# Altium schematic symbol library AnalogUnits.SchLib: 19 symbols
Pins are listed as number, name and electrical type; pins without a type are passive.

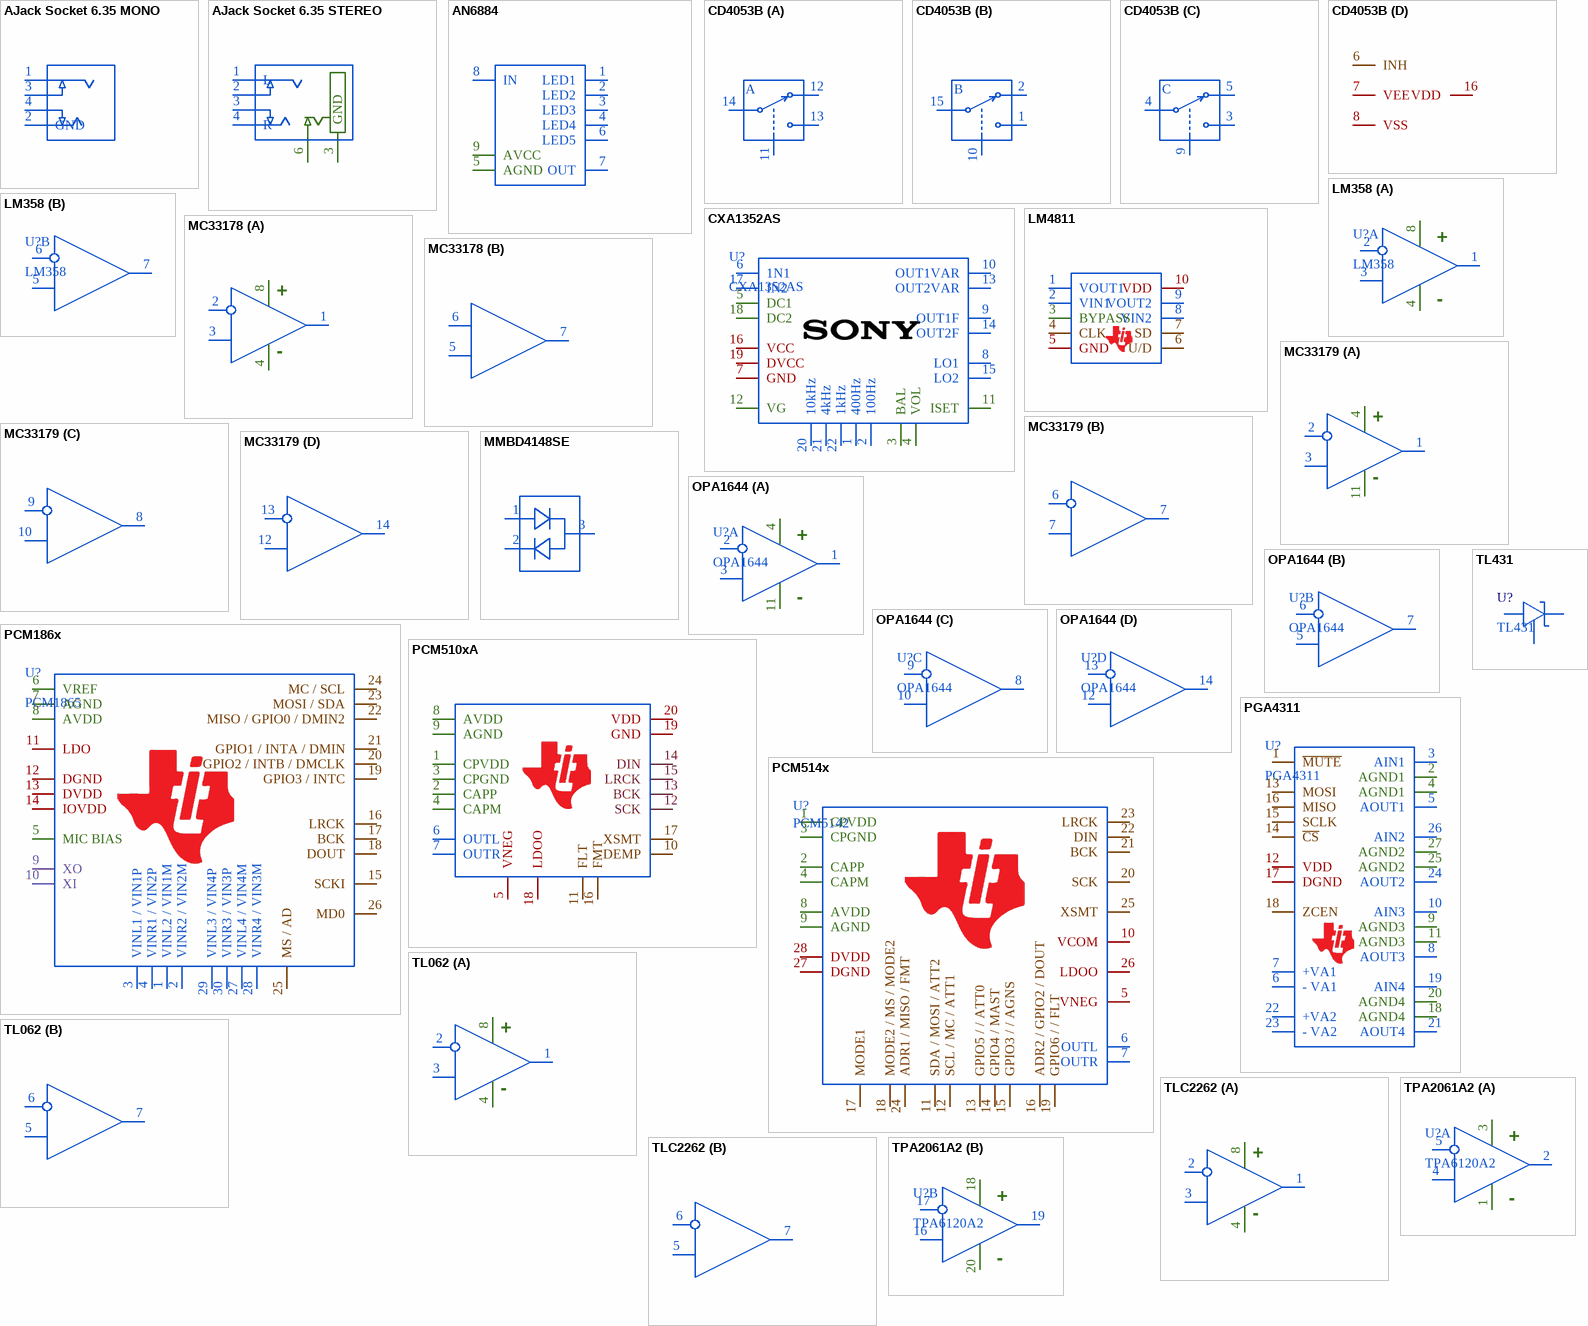
[diagram p0: symbols AJack Socket 6.35 MONO to TPA2061A2]

## AJack Socket 6.35 MONO
designator J?
Case: DNP; Part Number: N/A
footprint AJACKSOCKET-6.35-MONO (6.35mm Mono Jack Socket Connector)
pins: 1, 2 GND, 3, 4

## AJack Socket 6.35 STEREO
designator J?
Case: DNP; Part Number: N/A
footprint AJACKSOCKET-6.35-STEREO (6.35mm Mono Jack Socket Connector)
pins: 1 L, 2, 3 GND, 3, 4 R, 6

## AN6884
designator U?
Driving 5-LED and is capable of logarithmic (dB) bar graph display for input signal; Name: AN6884; Case: DNP; Part Number: N/A
footprint SIP9
pins: 1 LED1, 2 LED2, 3 LED3, 4 LED4, 5 AGND, 6 LED5, 7 OUT, 8 IN, 9 AVCC

## CD4053B
designator U?
CMOS Single 8-Channel Analog Multiplexer or Demultiplexer; Name: CD4053B; Case: DNP; Part Number: N/A
footprint SOIC16
footprint DIP16
footprint TSSOP16
part A pins: 11, 12, 13, 14
part B pins: 1, 2, 10, 15
part C pins: 3, 4, 5, 9
part D pins: 6 INH, 7 VEE, 8 VSS, 16 VDD
part A text: A
part B text: B
part C text: C

## CXA1352AS
designator U?
2-channel 5 Elements Graphic Equalizer IC; Name: CXA1352AS; Case: DNP; Part Number: N/A
footprint SDIP22
pins: 1 400Hz, 2 100Hz, 3 BAL, 4 VOL, 5 DC1, 6 1N1, 7 GND, 8 LO1, 9 OUT1F, 10 OUT1VAR, 11 ISET, 12 VG, 13 OUT2VAR, 14 OUT2F, 15 LO2, 16 VCC, 17 IN2, 18 DC2, 19 DVCC, 20 10kHz, 21 4kHz, 22 1kHz

## LM358
designator U?
Classical OA; Name: LM358; Case: DNP; Part Number: N/A
footprint SOIC8
footprint DIP8
part A pins: 1, 2 -, 3, 4 -, 8 +
part B pins: 5, 6 -, 7

## LM4811
designator U?
Dual 105mW Headphone Amplifier with Digital Volume Control and Shutdown mode; Name: LM4811; Case: DNP; Part Number: N/A
footprint HVSSOP10
pins: 1 VOUT1, 2 VIN1, 3 BYPASS, 4 CLK, 5 GND, 6 U/D, 7 SD, 8 VIN2, 9 VOUT2, 10 VDD

## MC33178
designator U?
Operational Amplifiers - Low Power, Low Noise; Name: MC33178; Case: DNP; Part Number: N/A
footprint DIP8
footprint SOIC8
part A pins: 1, 2 -, 3, 4 -, 8 +
part B pins: 5, 6 -, 7

## MC33179
designator U?
Operational Amplifiers - Low Power, Low Noise; Name: MC33179; Case: DNP; Part Number: N/A
footprint SOIC14
part A pins: 1, 2 -, 3, 4 +, 11 -
part B pins: 6 -, 7, 7
part C pins: 8, 9 -, 10
part D pins: 12, 13 -, 14

## MMBD4148SE
designator VD?
Name: MMBD4148SE; Case: DNP; Part Number: N/A
footprint SOT-23-312
pins: 1, 2, 3

## OPA1644
designator U?
SoundPlus™ High-Performance, JFET-Input Audio Operational Amplifiers; Name: OPA1644; Case: DNP; Part Number: N/A
footprint SOIC14
part A pins: 1, 2, 3 +, 4 V+, 11 V-
part B pins: 5, 6, 7
part C pins: 8, 9, 10 +
part D pins: 12 +, 13, 14
part A text: -

## PCM186x
designator U?, comment PCM1865
4-Channel or 2-Channel, 192-kHz, Audio ADCs (PCM1862 - PCM1865); Name: PCM1865; Case: DNP; Part Number: N/A
footprint TSSOP30
pins: 1 VINL2 / VIN1M, 2 VINR2 / VIN2M, 3 VINL1 / VIN1P, 4 VINR1 / VIN2P, 5 MIC BIAS, 6 VREF, 7 AGND, 8 AVDD, 9 XO, 10 XI, 11 LDO, 12 DGND, 13 DVDD, 14 IOVDD, 15 SCKI, 16 LRCK, 17 BCK, 18 DOUT, 19 GPIO3 / INTC, 20 GPIO2 / INTB / DMCLK, 21 GPIO1 / INTA / DMIN, 22 MISO / GPIO0 / DMIN2, 23 MOSI / SDA, 24 MC / SCL, 25 MS / AD, 26 MD0, 27 VINL4 / VIN4M, 28 VINR4 / VIN3M, 29 VINL3 / VIN4P, 30 VINR3 / VIN3P

## PCM510xA
designator U?, comment PCM5102A
2.1 VRMS, 112/106/100 dB Audio Stereo DAC with PLL and 32-bit, 384 kHz PCM Interface; Name: PCM5102A; Case: DNP; Part Number: N/A
footprint TSSOP20
pins: 1 CPVDD, 2 CAPP, 3 CPGND, 4 CAPM, 5 VNEG, 6 OUTL, 7 OUTR, 8 AVDD, 9 AGND, 10 DEMP, 11 FLT, 12 SCK, 13 BCK, 14 DIN, 15 LRCK, 16 FMT, 17 XSMT, 18 LDOO, 19 GND, 20 VDD

## PCM514x
designator U?, comment PCM5142
2-VRMS DirectPath™, 112/106-dB Audio Stereo DAC With 32-bit, 384-kHz PCM Interface; Name: PCM5142; Case: DNP; Part Number: N/A
footprint TSSOP28 (TSOP, 28-Leads, Body 9,70x4,40mm, Pitch 0,65mm, IPC Medium Density)
pins: 1 CPVDD, 2 CAPP, 3 CPGND, 4 CAPM, 5 VNEG, 6 OUTL, 7 OUTR, 8 AVDD, 9 AGND, 10 VCOM, 11 SDA / MOSI / ATT2, 12 SCL / MC / ATT1, 13 GPIO5 / / ATT0, 14 GPIO4 / MAST, 15 GPIO3 / / AGNS, 16 ADR2 / GPIO2 / DOUT, 17 MODE1, 18 MODE2 / MS / MODE2, 19 GPIO6 / / FLT, 20 SCK, 21 BCK, 22 DIN, 23 LRCK, 24 ADR1 / MISO / FMT, 25 XSMT, 26 LDOO, 27 DGND, 28 DVDD

## PGA4311
designator U?
4-Channel Audio Volume Control; Name: PGA4311; Case: DNP; Part Number: N/A
footprint SOIC28
pins: 1 ~{MUTE}, 2 AGND1, 3 AIN1, 4 AGND1, 5 AOUT1, 6 - VA1, 7 +VA1, 8 AOUT3, 9 AGND3, 10 AIN3, 11 AGND3, 12 VDD, 13 MOSI, 14 ~{CS}, 15 SCLK, 16 MISO, 17 DGND, 18 ZCEN, 18 AGND4, 19 AIN4, 20 AGND4, 21 AOUT4, 22 +VA2, 23 - VA2, 24 AOUT2, 25 AGND2, 26 AIN2, 27 AGND2

## TL062
designator U?
Operational Amplifiers Advanced LinCMOS Rail-to-Rail; Name: TL062; Case: DNP; Part Number: N/A
footprint DIP8
footprint SOIC8
part A pins: 1, 2 -, 3, 4 -, 8 +
part B pins: 5, 6 -, 7

## TL431
designator U?
Adjustable precision shunt regulator; Name: TL431; Case: DNP; Part Number: N/A
footprint TO-92-123-L
footprint SOT-23-312
pins: 1 REF, 1 ANODE, 3 CATHODE

## TLC2262
designator CMOS Single 8-Channel Analog Multiplexer or Demultiplexer
Operational Amplifiers Advanced LinCMOS Rail-to-Rail; Name: TLC2262; Case: DNP; Part Number: N/A
footprint DIP8
footprint SOIC8
part A pins: 1, 2 -, 3, 4 -, 8 +
part B pins: 5, 6 -, 7

## TPA2061A2
designator U?, comment TPA6120A2
2-Channel Audio Volume Control; Name: TPA6120A2; Case: DNP; Part Number: N/A
footprint HSOP20
part A pins: 1 -, 2, 3 +, 4 +, 5 -
part B pins: 16 +, 17 -, 18 RVCC+, 19 ROUT, 20 RVCC-